# EAGLE library part 691701500009B (library Wurth_Elektronik_Electromechanic_Terminal_Blocks_Connectors_rev16b)
WR-TBL Serie 7015 – 5.08mm Open Vertical PCB Header, 9 Pins=>Code : Con_TBL_Pluggable_5.08_PCB_THR_691701500009B <http://katalog.we-online.de/media/images/eican/Con_TBL_Pluggable_5.08_PCB_THR_6917015000xxB_pf2.jpg> Details see: http://katalog.we-online.de/en/em/691_701_500_0xxB Created 2014-06-23, Karrer Zheng 2014 (C) Würth Elektronik
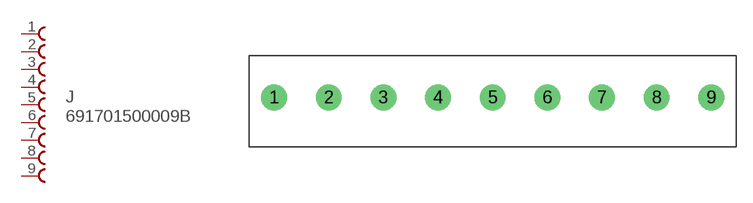
[diagram p323: symbol with the pads of 691701500009B; footprint 691701500009B]

Designator prefix J

## 691701500009B  [691701500009B]
1  1  pas
2  2  pas
3  3  pas
4  4  pas
5  5  pas
6  6  pas
7  7  pas
8  8  pas
9  9  pas

## Footprint 691701500009B (pad centres in mm)
WR-TBL Serie 7015 – 5.08mm Open Vertical PCB Header, 9 Pins
drill 1.6: 1 -20.32,0; 2 -15.24,0; 3 -10.16,0; 4 -5.08,0; 5 0,0; 6 5.08,0; 7 10.16,0; 8 15.24,0; 9 20.32,0